# Altium footprint library PCB - CONNECTOR - TAOGLAS - TAOGLAS EMPCB.SMAMST.A.PCBLIB: 1 footprints
Each footprint in its own frame and in the unit in brackets; x right, y up, seen from the top. Pads: shape width x height; smd on the part's side, far side on the other; paste and mask are expansions set on the pad; w line width, h text height; cw(c..) or ccw(c..) is an arc to the next point about the centre after c.
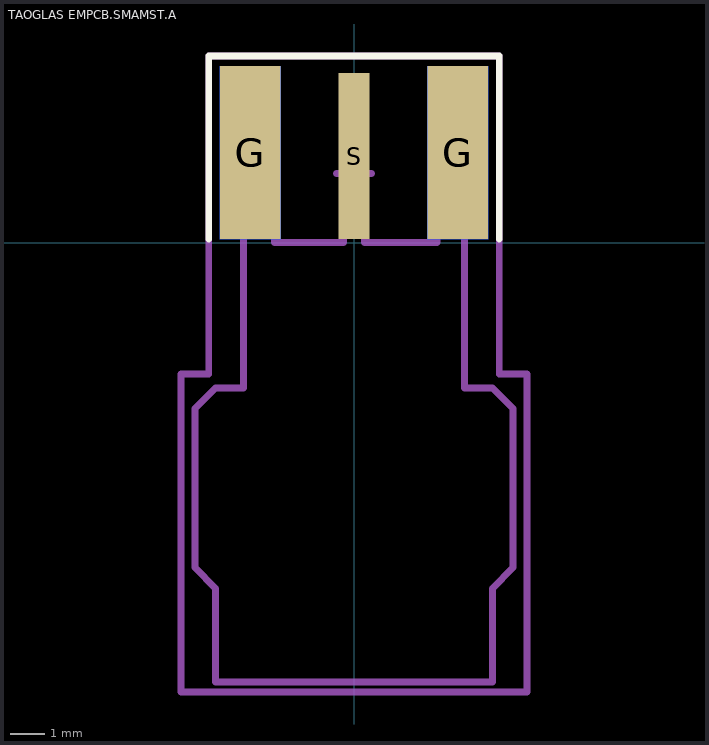
[diagram p0: the footprint, top view; thin cyan lines are the x and y axes]

## TAOGLAS EMPCB.SMAMST.A [mm] "SMA(M)ST for PCB Edge Mount Gold Plating 0.94mm board"
height 3.55
pads (5):
  rect 1.75x5 smd paste+0: G(-3,2.6) G(3,2.6)
  rect 1.75x5 smd far side paste+0: G(-3,2.6) G(3,2.6)
  rect 0.9x4.8 smd paste+0: S(0,2.5)
Top Overlay:
  lines w0.2: -4.2,0.1 -4.2,5.4 4.2,5.4 4.2,0.1
Top Component Center:
  lines w0.2: -0.5,2 0.5,2 ; 0,1.5 0,2.5
Top Component Outline:
  lines w0.2: -4.6,-9.4 -4.6,-4.8 -4,-4.2 -3.2,-4.2 -3.2,-1.6 -3.2,3.8 -2.3,3.8 -2.3,0 -0.3,0 -0.3,3.8 0.3,3.8 0.3,0 2.4,0 2.4,3.8 3.2,3.8 3.2,-1.6 3.2,-4.2 4,-4.2 4.6,-4.8 4.6,-9.4 4,-10 4,-12.7 -4,-12.7 -4,-10 -4.6,-9.4
Top Courtyard (Mech15):
  lines w0.2: -5,-13 5,-13 5,-3.8 4.2,-3.8 4.2,5.4 -4.2,5.4 -4.2,-3.8 -5,-3.8 -5,-13
3D body "Taoglas EMPCB.SMAMST.A.step": height 4.35, standoff -3.65, extent -4.619,-12.7 4.619,4.75